# EAGLE library part ISO7221 (library texas)
DUAL DIGITAL ISOLATORS Source: http://focus.ti.com/lit/ds/symlink/iso7221a.pdf
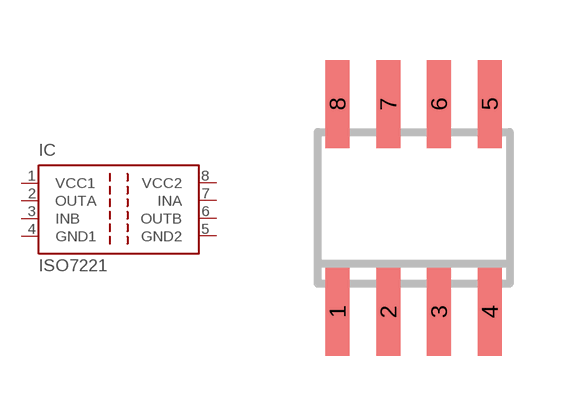
[diagram p53: symbol with the pads of SO-08; footprint SO-08]

Designator prefix IC

## ISO7221A, ISO7221B, ISO7221C, ISO7221M  [SO-08]
1  VCC1  pwr
2  OUTA  out
3  INB  in
4  GND1  pwr
5  GND2  pwr
6  OUTB  out
7  INA  in
8  VCC2  pwr

## Footprint SO-08 (pad centres in mm)
D (R-PDSO-G8) Plastic Small Outline Package Source: http://focus.ti.com/lit/ds/symlink/sn65als176.pdf
smd 0.6 x 2.2: 1 -1.905,-2.6; 2 -0.635,-2.6; 3 0.635,-2.6; 4 1.905,-2.6; 5 1.905,2.6; 6 0.635,2.6; 7 -0.635,2.6; 8 -1.905,2.6